# Altium schematic symbol library CC2592.SchLib: 1 symbol
Pins are listed as number, name and electrical type; pins without a type are passive.

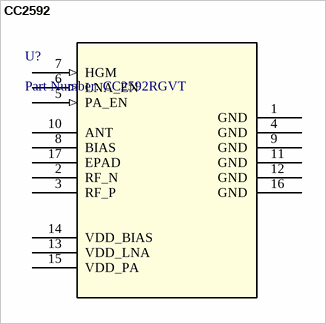
[diagram p0: symbol CC2592]

## CC2592
designator U?, comment Part Number: CC2592RGVT
2.4 GHz range extender with up to +22 dBm output power; Built_By: EMA_UL_Team; Vendor: Texas Instruments; Manufacturer_Part_Number: CC2592RGVT; RefDes: RefDes; Type: DEV; Value: Value; ComponentLink1Description: Product Page; ComponentLink1URL: https://www.ti.com/product/CC2592
footprint RGV16_2P16X2P16
pins: 1 GND (power), 2 RF_N, 3 RF_P, 4 GND (power), 5 PA_EN (in), 6 LNA_EN (in), 7 HGM (in), 8 BIAS, 9 GND (power), 10 ANT, 11 GND (power), 12 GND (power), 13 VDD_LNA (power), 14 VDD_BIAS (power), 15 VDD_PA (power), 16 GND (power), 17 EPAD